# EAGLE library part HT16K33-SOP24 (library holtek-led-controller-V1)
RAM Mapping 16*8 LED Controller Driver with keyscan
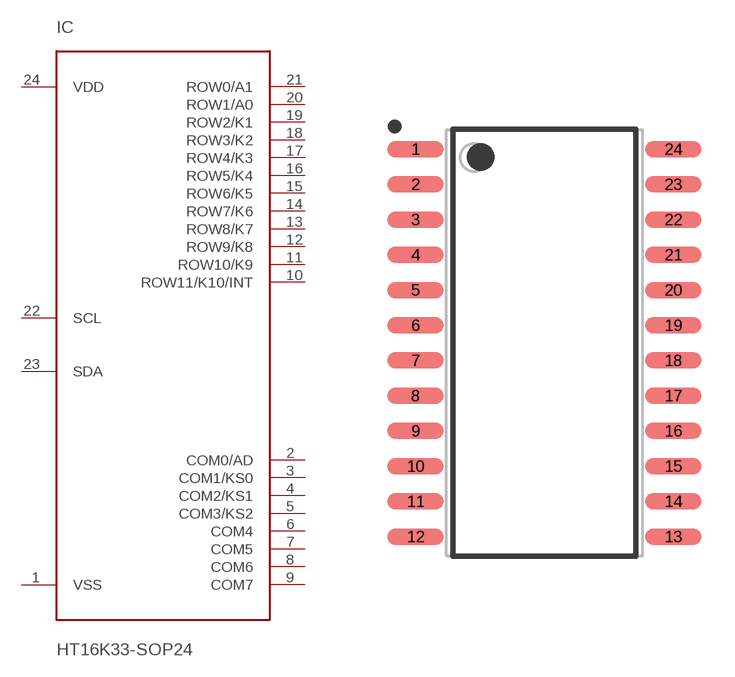
[diagram p1: symbol with the pads of SOIC127P1031X264-24N; footprint SOIC127P1031X264-24N]

Designator prefix IC

## HT16K33-SOP24  [SOIC127P1031X264-24N]
1  VSS  pwr
2  COM0/AD  out
3  COM1/KS0  out
4  COM2/KS1  out
5  COM3/KS2  out
6  COM4  out
7  COM5  out
8  COM6  out
9  COM7  out
10  ROW11/K10/INT
11  ROW10/K9
12  ROW9/K8
13  ROW8/K7
14  ROW7/K6
15  ROW6/K5
16  ROW5/K4
17  ROW4/K3
18  ROW3/K2
19  ROW2/K1
20  ROW1/A0
21  ROW0/A1
22  SCL  in
23  SDA
24  VDD  pwr

## Footprint SOIC127P1031X264-24N (pad centres in mm)
SOIC,1.27mm,pitch;24 pin,7.06mm W X 15.38mm L X 2.64mm H body
smd 2.05 x 0.6: 1 -4.65,6.985; 2 -4.65,5.715; 3 -4.65,4.445; 4 -4.65,3.175; 5 -4.65,1.905; 6 -4.65,0.635; 7 -4.65,-0.635; 8 -4.65,-1.905; 9 -4.65,-3.175; 10 -4.65,-4.445; 11 -4.65,-5.715; 12 -4.65,-6.985; 13 4.65,-6.985; 14 4.65,-5.715; 15 4.65,-4.445; 16 4.65,-3.175; 17 4.65,-1.905; 18 4.65,-0.635; 19 4.65,0.635; 20 4.65,1.905; 21 4.65,3.175; 22 4.65,4.445; 23 4.65,5.715; 24 4.65,6.985